# Altium footprint library SnapEDApcb.PcbLib: 1 footprints
Each footprint in its own frame and in the unit in brackets; x right, y up, seen from the top. Pads: shape width x height; smd on the part's side, far side on the other; paste and mask are expansions set on the pad; w line width, h text height; cw(c..) or ccw(c..) is an arc to the next point about the centre after c.
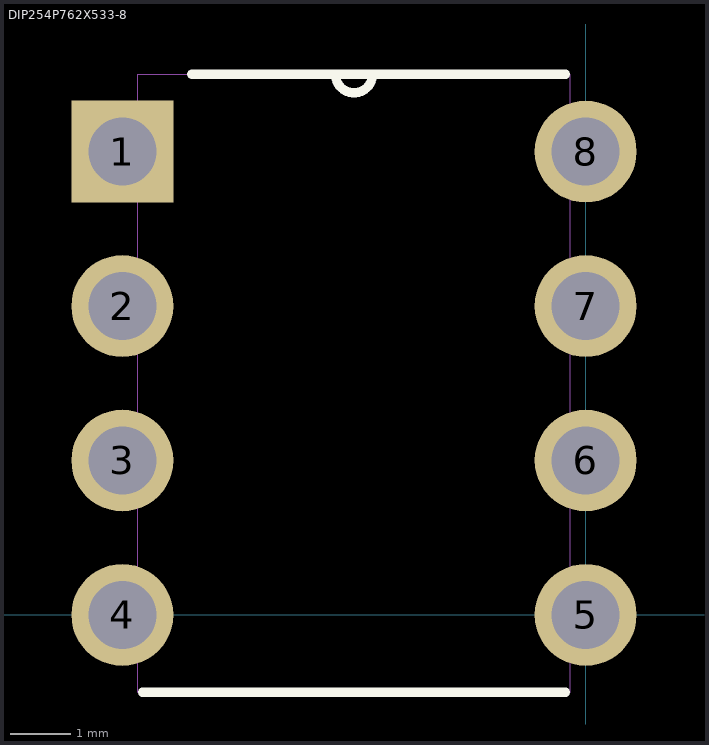
[diagram p0: the footprint, top view; thin cyan lines are the x and y axes]

## DIP254P762X533-8 [mil]
pads (8):
  rect 66x66 hole 44: 1(-300,300)
  round 66 hole 44: 2(-300,200) 3(-300,100) 4(-300,0) 5(0,0) 6(0,100) 7(0,200) 8(0,300)
Top Overlay:
  lines w6: -287,-50 -13,-50 ; -255,350 -162,350 ; -13,350 -138,350 ; -162,350 ccw(c-150,350) -138,350 ; -162,350 -138,350
Mechanical 13:
  lines w0: -162,350 ccw(c-150,350) -138,350 ; -162,350 -138,350 ; -162,350 -290,350 -290,-50 -10,-50 -10,350 -138,350 ; -322,-22 -322,22 -290,22 -290,-22 -322,-22 ; -322,78 -322,122 -290,122 -290,78 -322,78 ; -322,178 -322,222 -290,222 -290,178 -322,178 ; -322,278 -322,322 -290,322 -290,278 -322,278 ; -10,-22 -10,22 22,22 22,-22 -10,-22 ; -10,78 -10,122 22,122 22,78 -10,78 ; -10,178 -10,222 22,222 22,178 -10,178 ; -10,278 -10,322 22,322 22,278 -10,278